# EAGLE library part ATTINY13 (library my_ic)
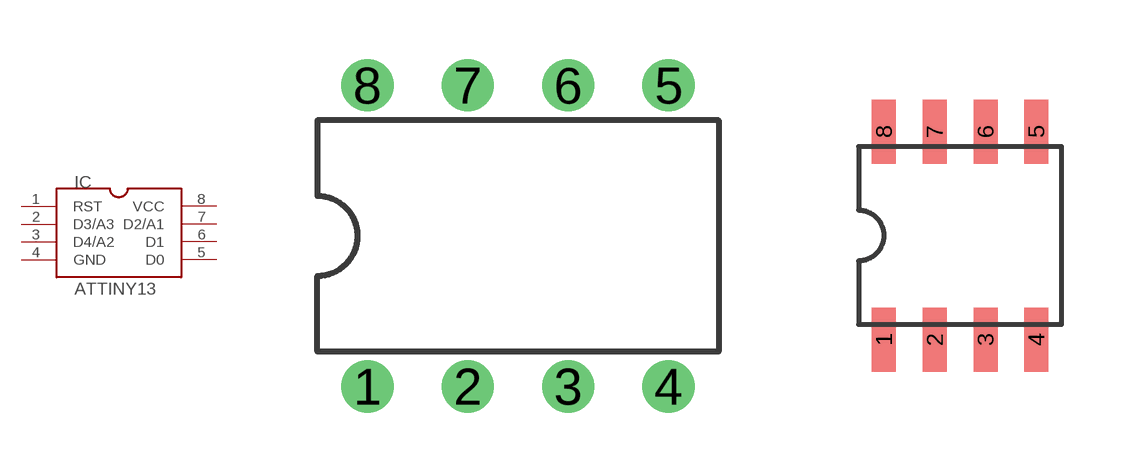
[diagram p3: symbol with the pads of DIL08; footprints DIL08, SOP8]

Designator prefix IC

## ATTINY13  [DIL08]
1  RST
2  D3/A3
3  D4/A2
4  GND  pwr
5  D0
6  D1
7  D2/A1
8  VCC  pwr

## ATTINY13-SOP  [SOP8]
Pads as for DIL08

## Footprint DIL08 (pad centres in mm)
Dual In Line Package
drill 0.813 pad 1.27: 1 -3.81,-3.81; 2 -1.27,-3.81; 3 1.27,-3.81; 4 3.81,-3.81; 5 3.81,3.81; 6 1.27,3.81; 7 -1.27,3.81; 8 -3.81,3.81

## Footprint SOP8 (pad centres in mm)
SOP8 Source: http://www.rohm.com/products/databook/motor/pdf/bd623x_series-e.pdf
smd 0.6 x 1.6: 1 -1.905,-2.6; 2 -0.635,-2.6; 3 0.635,-2.6; 4 1.905,-2.6; 5 1.905,2.6; 6 0.635,2.6; 7 -0.635,2.6; 8 -1.905,2.6